# Altium schematic symbol library MCU.SchLib: 6 symbols
Pins are listed as number, name and electrical type; pins without a type are passive.

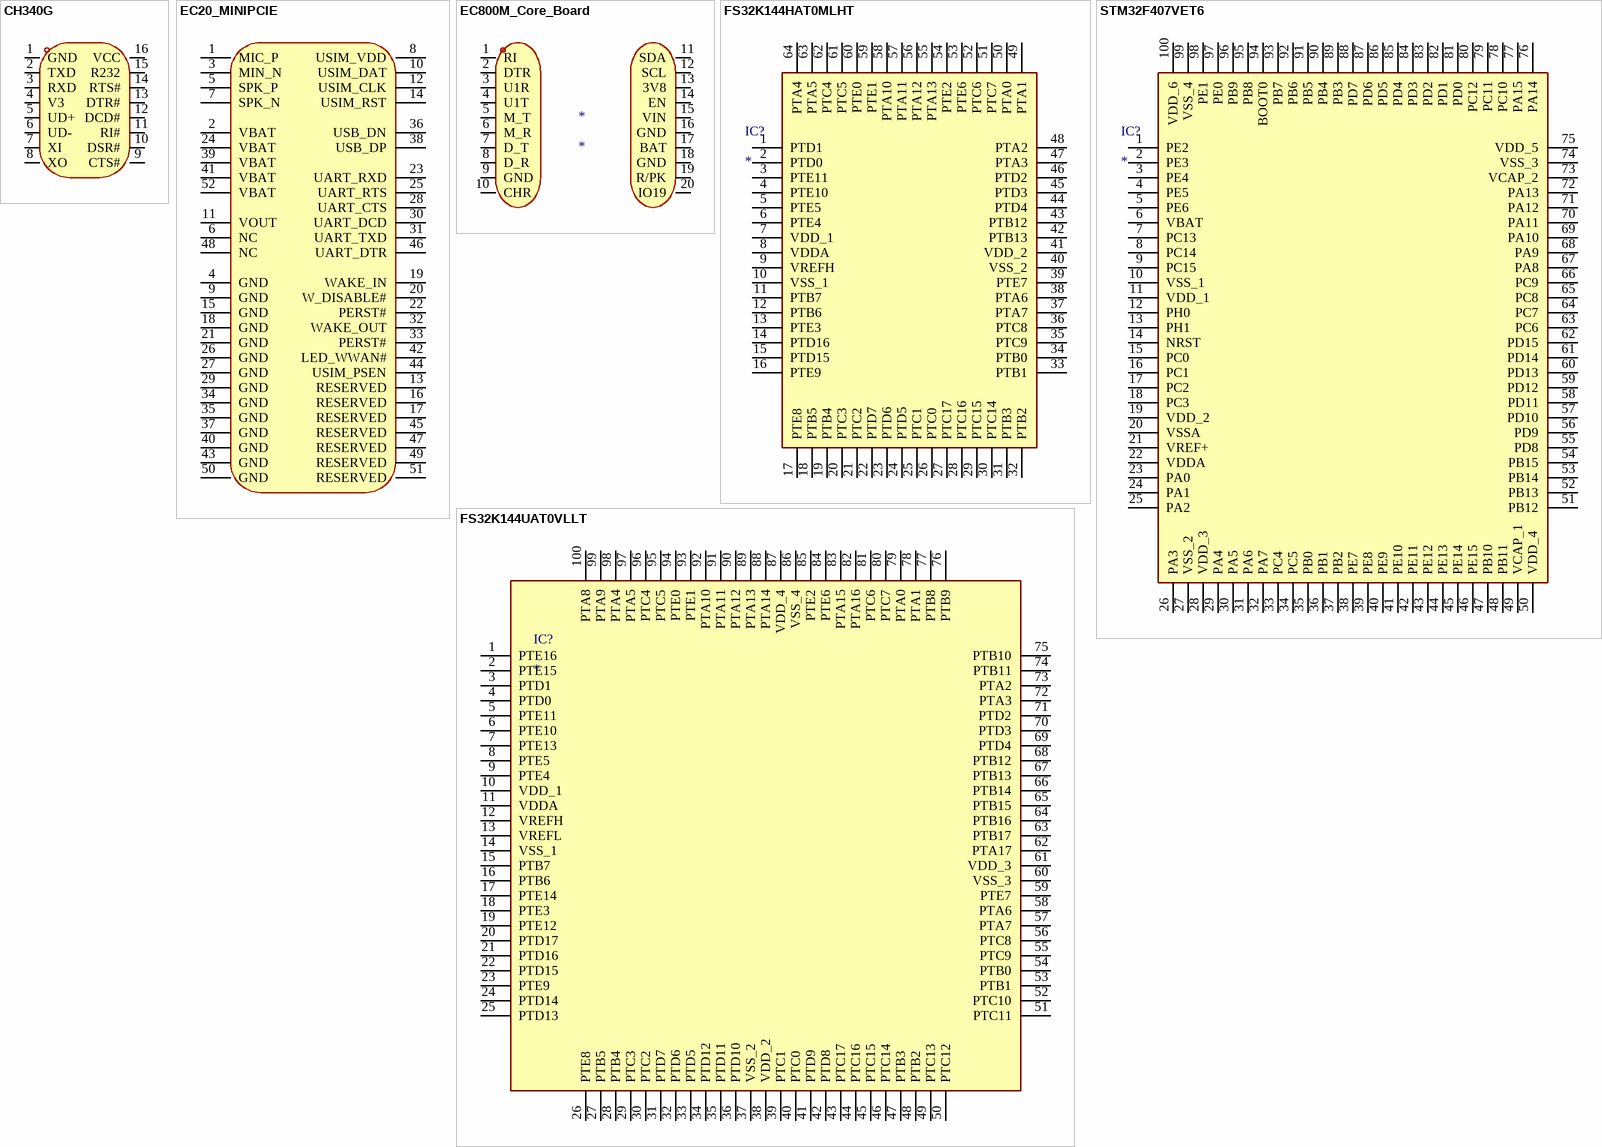
[diagram p0: symbols CH340G to STM32F407VET6]

## CH340G
designator U??  (value not drawn)
Manufacturer: WCH(南京沁恒); Add into BOM: yes; Applications Function: 收发器; Protocol: USB 2.0; Supply Voltage: 3.3V；5V; Data Rate: 2Mbps; Symbol: CH340G; Device: CH340G; Supplier: LCSC; Manufacturer Part: CH340G; Supplier Part: C14267; JLCPCB Part Class: Extended Part; LCSC Part Name: USB转串口芯片 CH340; Supplier Footprint: SOP-16; Datasheet: https://atta.szlcsc.com/upload/public/pdf/source/20230530/6E401E9554E9F5311886CC8B3F89B62E.pdf; Convert to PCB: yes
footprint SOIC-16_L9.9-W3.9-P1.27-LS6.0-BL
pins: 1 GND, 2 TXD, 3 RXD, 4 V3, 5 UD+, 6 UD-, 7 XI, 8 XO, 9 CTS#, 10 DSR#, 11 RI#, 12 DCD#, 13 DTR#, 14 RTS#, 15 R232, 16 VCC

## EC20_MINIPCIE
designator PCIE??  (value not drawn)
EC20 CAT4ģ--; Manufacturer: BOOMELE; Manufacturer Part: miniPCI-E Slot; Add into BOM: yes; Name: EC20_MINIPCIE; Symbol: EC20_MINIPCIE; Device: EC20_MINIPCIE; Supplier: LCSC; Supplier Part: C16250; JLCPCB Part Class: Extended Part; Convert to PCB: yes
footprint EC20_MINIPCIE
pins: 1 MIC_P, 2 VBAT, 3 MIN_N, 4 GND, 5 SPK_P, 6 NC, 7 SPK_N, 8 USIM_VDD, 9 GND, 10 USIM_DAT, 11 VOUT, 12 USIM_CLK, 13 RESERVED, 14 USIM_RST, 15 GND, 16 RESERVED, 17 RESERVED, 18 GND, 19 WAKE_IN, 20 W_DISABLE#, 21 GND, 22 PERST#, 23 UART_RXD, 24 VBAT, 25 UART_RTS, 26 GND, 27 GND, 28 UART_CTS, 29 GND, 30 UART_DCD, 31 UART_TXD, 32 WAKE_OUT, 33 PERST#, 34 GND, 35 GND, 36 USB_DN, 37 GND, 38 USB_DP, 39 VBAT, 40 GND, 41 VBAT, 42 LED_WWAN#, 43 GND, 44 USIM_PSEN, 45 RESERVED, 46 UART_DTR, 47 RESERVED, 48 NC, 49 RESERVED, 50 GND, 51 RESERVED, 52 VBAT

## EC800M_Core_Board
designator *
footprint EC800M_Core_Board
pins: 1 RI, 2 DTR, 3 U1R, 4 U1T, 5 M_T, 6 M_R, 7 D_T, 8 D_R, 9 GND, 10 CHR, 11 SDA, 12 SCL, 13 3V8, 14 EN, 15 VIN, 16 GND, 17 BAT, 18 GND, 19 R/PK, 20 IO19

## FS32K144HAT0MLHT
designator IC?
Integrated Circuit; Manufacturer_Name: NXP; Manufacturer_Part_Number: FS32K144HAT0MLHT; Datasheet Link: https://datasheet.datasheetarchive.com/originals/distributors/DKDS42/DSANUWW0047967.pdf; Height: 1.6mm; Mouser Part Number: 771-FS32K144HAT0MLHT; Mouser Price/Stock: https://www.mouser.co.uk/ProductDetail/NXP-Semiconductors/FS32K144HAT0MLHT?qs=BZBei1rCqCBQAYQuEUYYCA%3D%3D; Arrow Part Number: FS32K144HAT0MLHT; Arrow Price/Stock: https://www.arrow.com/en/products/fs32k144hat0mlht/nxp-semiconductors?region=nac
footprint QFP50P1200X1200X160-64N
pins: 1 PTD1, 2 PTD0, 3 PTE11, 4 PTE10, 5 PTE5, 6 PTE4, 7 VDD_1, 8 VDDA, 9 VREFH, 10 VSS_1, 11 PTB7, 12 PTB6, 13 PTE3, 14 PTD16, 15 PTD15, 16 PTE9, 17 PTE8, 18 PTB5, 19 PTB4, 20 PTC3, 21 PTC2, 22 PTD7, 23 PTD6, 24 PTD5, 25 PTC1, 26 PTC0, 27 PTC17, 28 PTC16, 29 PTC15, 30 PTC14, 31 PTB3, 32 PTB2, 33 PTB1, 34 PTB0, 35 PTC9, 36 PTC8, 37 PTA7, 38 PTA6, 39 PTE7, 40 VSS_2, 41 VDD_2, 42 PTB13, 43 PTB12, 44 PTD4, 45 PTD3, 46 PTD2, 47 PTA3, 48 PTA2, 49 PTA1, 50 PTA0, 51 PTC7, 52 PTC6, 53 PTE6, 54 PTE2, 55 PTA13, 56 PTA12, 57 PTA11, 58 PTA10, 59 PTE1, 60 PTE0, 61 PTC5, 62 PTC4, 63 PTA5, 64 PTA4

## FS32K144UAT0VLLT
designator IC?
Integrated Circuit; Manufacturer_Name: NXP; Manufacturer_Part_Number: FS32K144UAT0VLLT; Description: ARM Microcontrollers - MCU; Datasheet Link: https://datasheet.datasheetarchive.com/originals/distributors/DKDS42/DSANUWW0047967.pdf; Height: 1.7mm; Mouser Part Number: 771-FS32K144UAT0VLLT; Mouser Price/Stock: https://www.mouser.co.uk/ProductDetail/NXP-Semiconductors/FS32K144UAT0VLLT?qs=BZBei1rCqCBqCNyfsdzjpg%3D%3D; Arrow Part Number: FS32K144UAT0VLLT; Arrow Price/Stock: https://www.arrow.com/en/products/fs32k144uat0vllt/nxp-semiconductors?region=nac
footprint QFP50P1600X1600X170-100N
pins: 1 PTE16, 2 PTE15, 3 PTD1, 4 PTD0, 5 PTE11, 6 PTE10, 7 PTE13, 8 PTE5, 9 PTE4, 10 VDD_1, 11 VDDA, 12 VREFH, 13 VREFL, 14 VSS_1, 15 PTB7, 16 PTB6, 17 PTE14, 18 PTE3, 19 PTE12, 20 PTD17, 21 PTD16, 22 PTD15, 23 PTE9, 24 PTD14, 25 PTD13, 26 PTE8, 27 PTB5, 28 PTB4, 29 PTC3, 30 PTC2, 31 PTD7, 32 PTD6, 33 PTD5, 34 PTD12, 35 PTD11, 36 PTD10, 37 VSS_2, 38 VDD_2, 39 PTC1, 40 PTC0, 41 PTD9, 42 PTD8, 43 PTC17, 44 PTC16, 45 PTC15, 46 PTC14, 47 PTB3, 48 PTB2, 49 PTC13, 50 PTC12, 51 PTC11, 52 PTC10, 53 PTB1, 54 PTB0, 55 PTC9, 56 PTC8, 57 PTA7, 58 PTA6, 59 PTE7, 60 VSS_3, 61 VDD_3, 62 PTA17, 63 PTB17, 64 PTB16, 65 PTB15, 66 PTB14, 67 PTB13, 68 PTB12, 69 PTD4, 70 PTD3, 71 PTD2, 72 PTA3, 73 PTA2, 74 PTB11, 75 PTB10, 76 PTB9, 77 PTB8, 78 PTA1, 79 PTA0, 80 PTC7, 81 PTC6, 82 PTA16, 83 PTA15, 84 PTE6, 85 PTE2, 86 VSS_4, 87 VDD_4, 88 PTA14, 89 PTA13, 90 PTA12, 91 PTA11, 92 PTA10, 93 PTE1, 94 PTE0, 95 PTC5, 96 PTC4, 97 PTA5, 98 PTA4, 99 PTA9, 100 PTA8

## STM32F407VET6
designator IC?
Integrated Circuit; Manufacturer_Name: STMicroelectronics; Manufacturer_Part_Number: STM32F407VET6; Datasheet Link: http://www.st.com/web/en/resource/technical/document/datasheet/DM00037051.pdf; Height: 1.6mm; Mouser Part Number: 511-STM32F407VET6; Mouser Price/Stock: https://www.mouser.co.uk/ProductDetail/STMicroelectronics/STM32F407VET6?qs=Z8%252BeY1k3TIJFAMMqSR%252BGtw%3D%3D; Arrow Part Number: STM32F407VET6; Arrow Price/Stock: https://www.arrow.com/en/products/stm32f407vet6/stmicroelectronics?region=nac
footprint QFP50P1600X1600X160-100N
pins: 1 PE2, 2 PE3, 3 PE4, 4 PE5, 5 PE6, 6 VBAT, 7 PC13, 8 PC14, 9 PC15, 10 VSS_1, 11 VDD_1, 12 PH0, 13 PH1, 14 NRST, 15 PC0, 16 PC1, 17 PC2, 18 PC3, 19 VDD_2, 20 VSSA, 21 VREF+, 22 VDDA, 23 PA0, 24 PA1, 25 PA2, 26 PA3, 27 VSS_2, 28 VDD_3, 29 PA4, 30 PA5, 31 PA6, 32 PA7, 33 PC4, 34 PC5, 35 PB0, 36 PB1, 37 PB2, 38 PE7, 39 PE8, 40 PE9, 41 PE10, 42 PE11, 43 PE12, 44 PE13, 45 PE14, 46 PE15, 47 PB10, 48 PB11, 49 VCAP_1, 50 VDD_4, 51 PB12, 52 PB13, 53 PB14, 54 PB15, 55 PD8, 56 PD9, 57 PD10, 58 PD11, 59 PD12, 60 PD13, 61 PD14, 62 PD15, 63 PC6, 64 PC7, 65 PC8, 66 PC9, 67 PA8, 68 PA9, 69 PA10, 70 PA11, 71 PA12, 72 PA13, 73 VCAP_2, 74 VSS_3, 75 VDD_5, 76 PA14, 77 PA15, 78 PC10, 79 PC11, 80 PC12, 81 PD0, 82 PD1, 83 PD2, 84 PD3, 85 PD4, 86 PD5, 87 PD6, 88 PD7, 89 PB3, 90 PB4, 91 PB5, 92 PB6, 93 PB7, 94 BOOT0, 95 PB8, 96 PB9, 97 PE0, 98 PE1, 99 VSS_4, 100 VDD_6